# Altium footprint library PCB_L298_Board.PcbLib: 10 footprints
Each footprint in its own frame and in the unit in brackets; x right, y up, seen from the top. Pads: shape width x height; smd on the part's side, far side on the other; paste and mask are expansions set on the pad; w line width, h text height; cw(c..) or ccw(c..) is an arc to the next point about the centre after c.
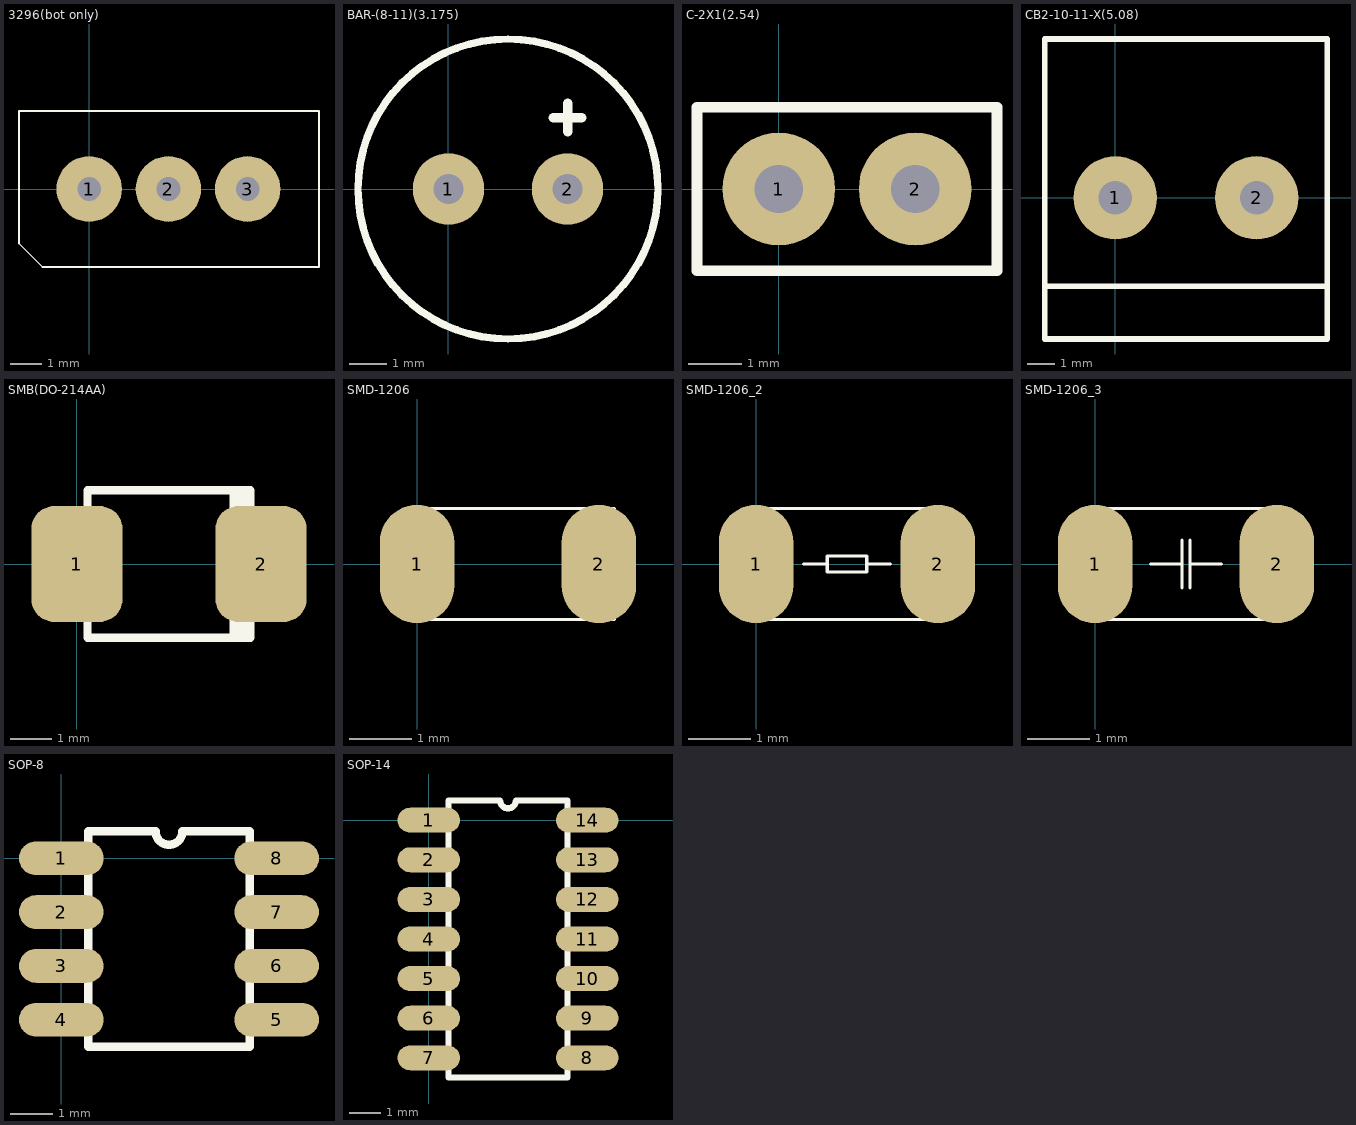
[diagram p0: the footprints below, top view; thin cyan lines are the x and y axes]

## 3296(bot only) [mm]
pads (3):
  round 2.1 hole 0.762: 1(0,0) 2(2.54,0) 3(5.08,0)
Top Overlay:
  lines w0.05: -2.25,-1.75 -1.5,-2.5 7.366,-2.5 7.366,2.5 -2.25,2.5 -2.25,-1.75

## BAR-(8-11)(3.175) [mm]
pads (2):
  round 1.9 hole 0.8: 1(0,0) 2(3.175,0)
Top Overlay:
  circle w0.2: c1.587,0 r4
  lines w0.254: 2.794,1.905 3.556,1.905 ; 3.175,1.524 3.175,2.286

## C-2X1(2.54) [mm]
pads (2):
  round 2.1 hole 0.9: 1(0,0) 2(2.54,0)
Top Overlay:
  lines w0.2: -1.524,-1.524 4.064,-1.524 4.064,1.524 -1.524,1.524 -1.524,-1.524

## CB2-10-11-X(5.08) [mm]
pads (2):
  round 3 hole 1.2: 1(0,0) 2(5.08,0)
Top Overlay:
  lines w0.2: -2.54,-3.175 7.62,-3.175 ; 7.62,-3.175 7.62,-5.08 -2.54,-5.08 -2.54,0 -2.54,5.715 7.62,5.715 7.62,-3.175

## SMB(DO-214AA) [mm]
pads (2):
  rrect50% 2.2x2.8 smd: 1(0,0) 2(4.445,0)
Top Overlay:
  rectangle: 3.683,-1.778 4.191,1.778
  lines w0.2: 0.254,-1.778 0.254,1.778 4.191,1.778 4.191,-1.778 0.254,-1.778

## SMD-1206 [mm]
pads (2):
  oval 1.2x1.9 smd: 1(0,0) 2(2.921,0)
Top Overlay:
  rectangle: 2.794,-0.889 3.175,0.889
  lines w0.05: 0,-0.889 0,0.889 ; 0,-0.889 0,0.889 ; 0,-0.889 3.175,-0.889 3.175,0.889 0,0.889

## SMD-1206_2 [mm]
pads (2):
  oval 1.2x1.9 smd: 1(0,0) 2(2.921,0)
Top Overlay:
  lines w0.05: 0.762,0 1.143,0 ; 1.778,0 2.159,0 ; 1.143,0 1.143,-0.127 1.778,-0.127 1.778,0.127 1.143,0.127 1.143,0 ; 0,-0.889 0,0.889 2.921,0.889 2.921,-0.889 0,-0.889

## SMD-1206_3 [mm]
pads (2):
  oval 1.2x1.9 smd: 1(0,0) 2(2.921,0)
Top Overlay:
  lines w0.05: 0.889,0 1.397,0 ; 1.397,-0.381 1.397,0.381 ; 1.524,-0.381 1.524,0.381 ; 1.524,0 2.032,0 ; 0,-0.889 2.921,-0.889 2.921,0.889 0,0.889 ; 0,-0.889 0,0.889 ; 0,-0.889 0,0.889

## SOP-8 [mm]
pads (8):
  oval 2x0.8 smd: 1(0,0) 2(0,-1.27) 3(0,-2.54) 4(0,-3.81) 5(5.08,-3.81) 6(5.08,-2.54) 7(5.08,-1.27) 8(5.08,0)
Top Overlay:
  lines w0.2: 0.635,-4.445 0.635,0.635 2.222,0.635 ccw(c2.54,0.635) 2.857,0.635 4.445,0.635 4.445,-4.445 0.635,-4.445

## SOP-14 [mm]
pads (14):
  oval 2x0.8 smd: 1(0,0) 2(0,-1.27) 3(0,-2.54) 4(0,-3.81) 5(0,-5.08) 6(0,-6.35) 7(0,-7.62) 8(5.08,-7.62) 9(5.08,-6.35) 10(5.08,-5.08) 11(5.08,-3.81) 12(5.08,-2.54) 13(5.08,-1.27) 14(5.08,0)
Top Overlay:
  lines w0.2: 0.635,-8.255 4.445,-8.255 4.445,0.635 2.794,0.635 cw(c2.54,0.635) 2.286,0.635 0.635,0.635 0.635,-8.255